# EAGLE library part 0.28"-2DIGIT-7SEGEMNT (library testing_jig)
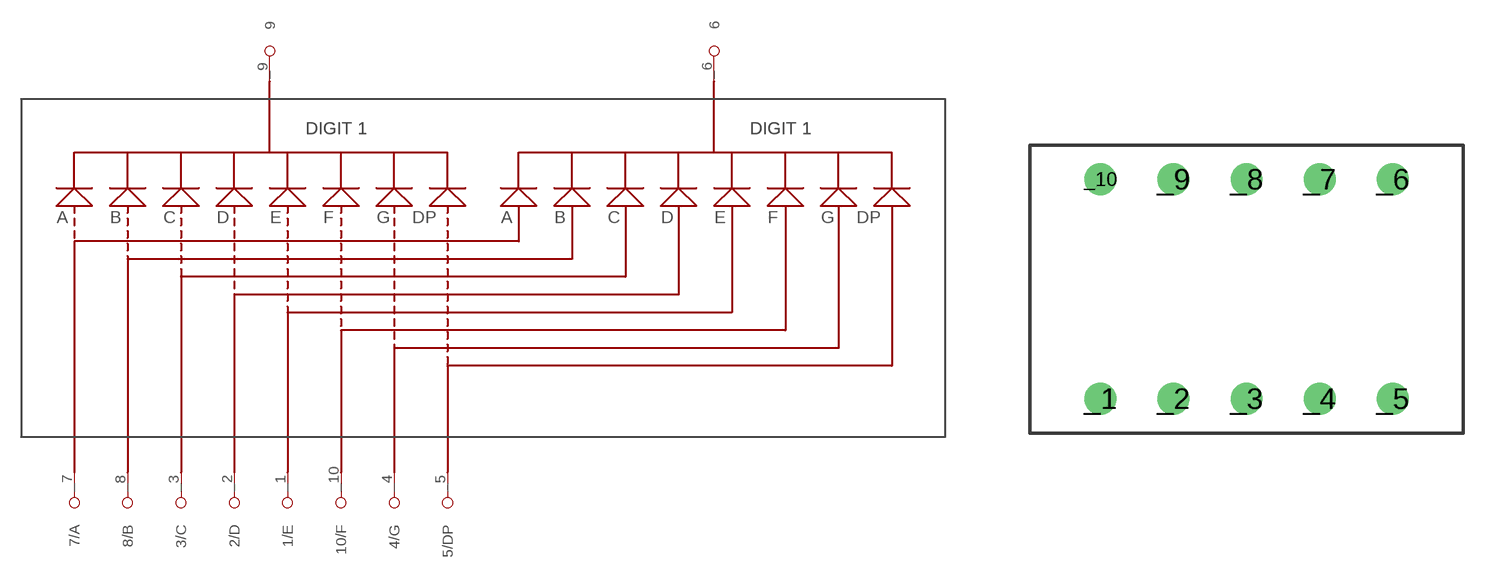
[diagram p1: symbol with the pads of 2_DIGIT_0.28"; footprint 2_DIGIT_0.28"]

Designator prefix -

## 0.28"-2DIGIT-7SEGEMNT  [2_DIGIT_0.28"]
_1  1/E
_2  2/D
_3  3/C
_4  4/G
_5  5/DP
_6  6
_7  7/A
_8  8/B
_9  9
_10  10/F

## Footprint 2_DIGIT_0.28" (pad centres in mm)
drill 0.6: _1 -5.08,-3.81; _2 -2.54,-3.81; _3 0,-3.81; _4 2.54,-3.81; _5 5.08,-3.81; _6 5.08,3.81; _7 2.54,3.81; _8 0,3.81; _9 -2.54,3.81; _10 -5.08,3.81